# Altium footprint library SOIC-32_300mil.PcbLib: 1 footprints
Each footprint in its own frame and in the unit in brackets; x right, y up, seen from the top. Pads: shape width x height; smd on the part's side, far side on the other; paste and mask are expansions set on the pad; w line width, h text height; cw(c..) or ccw(c..) is an arc to the next point about the centre after c.
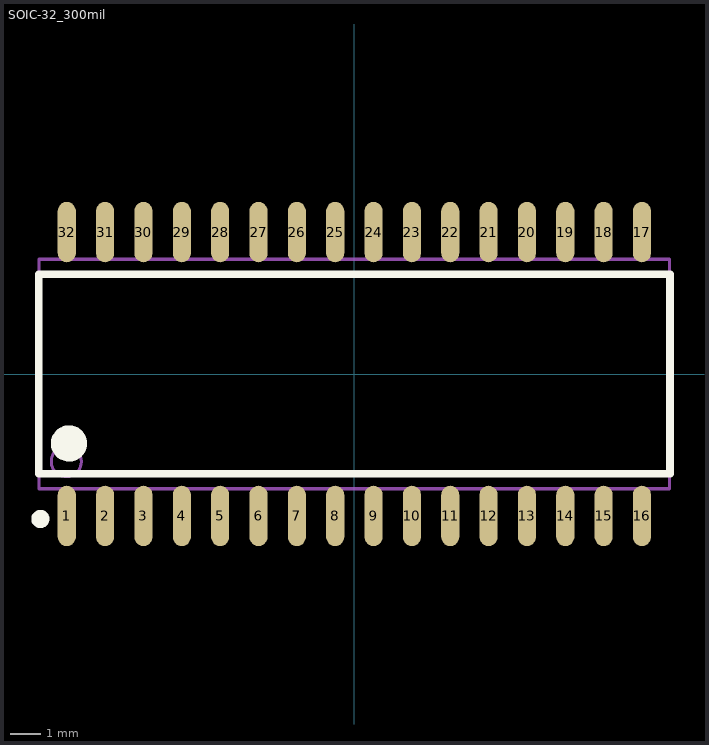
[diagram p0: the footprint, top view; thin cyan lines are the x and y axes]

## SOIC-32_300mil [mm]
pads (32):
  oval 0.6x2 smd: 1(-9.525,-4.7) 2(-8.255,-4.7) 3(-6.985,-4.7) 4(-5.715,-4.7) 5(-4.445,-4.7) 6(-3.175,-4.7) 7(-1.905,-4.7) 8(-0.635,-4.7) 9(0.635,-4.7) 10(1.905,-4.7) 11(3.175,-4.7) 12(4.445,-4.7) 13(5.715,-4.7) 14(6.985,-4.7) 15(8.255,-4.7) 16(9.525,-4.7) 17(9.525,4.7) 18(8.255,4.7) 19(6.985,4.7) 20(5.715,4.7) 21(4.445,4.7) 22(3.175,4.7) 23(1.905,4.7) 24(0.635,4.7) 25(-0.635,4.7) 26(-1.905,4.7) 27(-3.175,4.7) 28(-4.445,4.7) 29(-5.715,4.7) 30(-6.985,4.7) 31(-8.255,4.7) 32(-9.525,4.7)
Top Overlay:
  circle w0.3: c-10.4,-4.8 r0.15
  circle w0.6: c-9.45,-2.3 r0.3
  lines w0.254: -10.45,-3.3 10.45,-3.3 10.45,3.3 -10.45,3.3 -10.45,-3.3
Mechanical 13:
  circle w0.1: c-9.54,-2.9 r0.5
  lines w0.1: -10.44,-3.8 10.44,-3.8 10.44,3.8 -10.44,3.8 -10.44,-3.8